# Altium schematic symbol library symbols.SchLib: 23 symbols
Pins are listed as number, name and electrical type; pins without a type are passive.

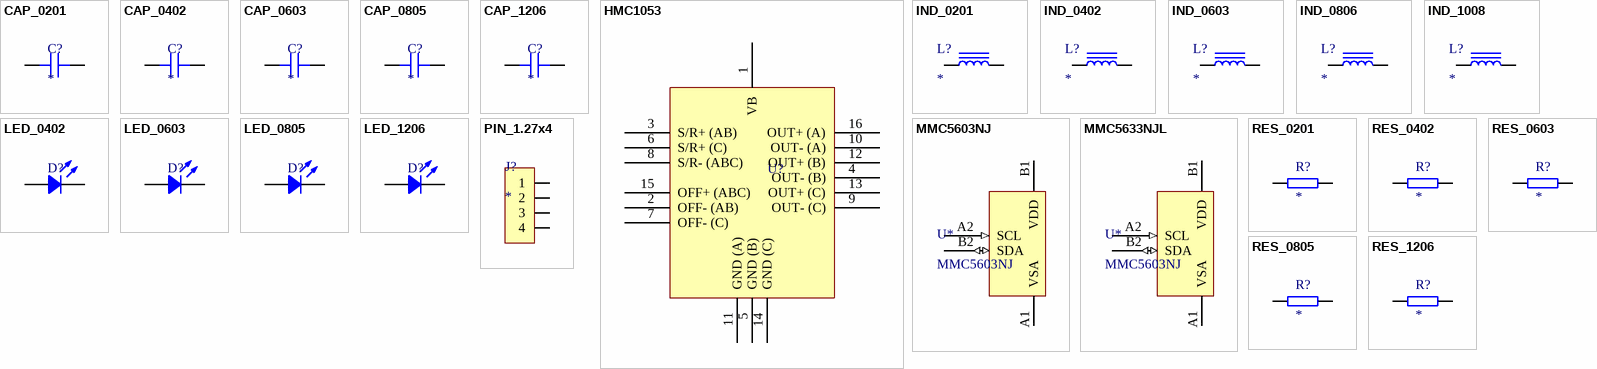
[diagram p0: symbols CAP_0201 to RES_1206]

## CAP_0201
designator C?
Capacitor SMD 0201; Voltage: 50V; Capacitance: *
footprint CAP_0201 (Chip Capacitor, 2-Leads, Body 0.60x0.30mm, IPC Medium Density)
footprint CAP_0201_RF (Chip Capacitor, 2-Leads, Body 0.60x0.30mm, IPC High Density)
pins: 1, 2

## CAP_0402
designator C?
Capacitor SMD 0402; Voltage: 50V; Capacitance: *
footprint CAP_0402 (Chip Capacitor, 2-Leads, Body 1.02x0.51mm, IPC Medium Density)
footprint CAP_0402_RF (Chip Capacitor, 2-Leads, Body 1.02x0.51mm, IPC High Density)
pins: 1, 2

## CAP_0603
designator C?
Capacitor SMD 0603; Voltage: 50V; Capacitance: *
footprint CAP_0603 (Chip Capacitor, 2-Leads, Body 1.60x0.80mm, IPC Medium Density)
footprint CAP_0603_RF (Chip Capacitor, 2-Leads, Body 1.60x0.80mm, IPC High Density)
pins: 1, 2

## CAP_0805
designator C?
Capacitor SMD 0805; Voltage: 50V; Capacitance: *
footprint CAP_0805 (Chip Capacitor, 2-Leads, Body 2.00x1.20mm, IPC Medium Density)
footprint CAP_0805_RF (Chip Capacitor, 2-Leads, Body 2.00x1.20mm, IPC High Density)
pins: 1, 2

## CAP_1206
designator C?
Capacitor SMD 1206; Voltage: 50V; Capacitance: *
footprint CAP_1206 (Chip Capacitor, 2-Leads, Body 3.25x1.60mm, IPC Medium Density)
pins: 1, 2

## HMC1053
designator U?
3-axis magnetoresistive sensor; Manufacturer: Honeywell; Manufacturer Part Number: HMC1053; Operating Supply Voltage: 3V; Output Type: Wheatstone Bridge; Axis: X, Y, Z; Nominal Supply Current: 500mA; Min Supply Voltage: 1.8V; Max Supply Voltage: 20V; Bandwidth: 5MHz; Supplier 1: Newark; RoHS: No; Category: Magnetic Sensors; Case/Package: PLCC; Number of Pins: 16; Min Operating Temperature: -40°C; Max Operating Temperature: 125°C; Package Quantity: 66; Packaging: Tape and Reel; Sensing Method: Magnetoresistive; Length: 7.4mm; Width: 7.4mm; Height: 2.5mm; Radiation Hardening: No; ComponentLink1URL: https://datasheet.ciiva.com/15099/getdatasheetpartid-59250-15099355.pdf?src-supplier=Verical; ComponentLink1Description: https://datasheet.ciiva.com/15099/getdatasheetpartid-59250-15099355.pdf?src-supplier=Verical; ComponentLink2URL: https://datasheet.ciiva.com/2816/hmc-1051-1052-1053-data-sheet-2816521.pdf?src-supplier=Digi-Key; ComponentLink2Description: https://datasheet.ciiva.com/2816/hmc-1051-1052-1053-data-sheet-2816521.pdf?src-supplier=Digi-Key
footprint HMC1053
pins: 1 VB (power), 2 OFF- (AB), 3 S/R+ (AB), 4 OUT- (B), 5 GND (B) (power), 6 S/R+ (C), 7 OFF- (C), 8 S/R- (ABC), 9 OUT- (C), 10 OUT- (A), 11 GND (A) (power), 12 OUT+ (B), 13 OUT+ (C), 14 GND (C) (power), 15 OFF+ (ABC), 16 OUT+ (A)

## IND_0201
designator L?
Inductor SMD 0201; Inductance: *
footprint IND_0201 (Inductor, 2-Leads, Body 0.60x0.30mm, IPC Medium Density)
pins: 1, 2

## IND_0402
designator L?
Inductor SMD 0402; Inductance: *
footprint IND_0402 (Inductor, 2-Leads, Body 1.02x0.51mm, IPC Medium Density)
pins: 1, 2

## IND_0603
designator L?
Inductor SMD 0603; Inductance: *
footprint IND_0603 (Chip Inductor, 2-Leads, Body 1.65x0.99mm, IPC Medium Density)
pins: 1, 2

## IND_0806
designator L?
Inductor SMD 0806; Inductance: *
footprint IND_0806 (Chip Capacitor, 2-Leads, Body 2.00x1.20mm, IPC Medium Density)
pins: 1, 2

## IND_1008
designator L?
Inductor SMD 1008; Inductance: *
footprint IND_1008 (Chip Inductance, 2-leads, Body 2.5x2.1mm, IPC Medium Density)
pins: 1, 2

## LED_0402
designator D?
LED SMD 0402
footprint LED_0402 (Chip Diode, 2-Leads, Body 1.00x0.50mm, IPC Medium Density)
pins: 1, 2

## LED_0603
designator D?
LED SMD 0603
footprint LED_0603 (Chip Diode, 2-Leads, Body 1.60x0.80mm, IPC Medium Density)
pins: 1, 2

## LED_0805
designator D?
LED SMD 0805
footprint LED_0805 (Chip Diode, 2-Leads, Body 2.00x1.25mm, IPC Medium Density)
pins: 1, 2

## LED_1206
designator D?
LED SMD 1206
footprint LED_1206 (Chip Diode, 2-Leads, Body 3.13x1.55mm, IPC Medium Density)
pins: 1, 2

## MMC5603NJ
designator U*
3-axis AMR Magnetic Sensor; Manufacturer: Memsic; Manufacturer Part Number: MMC5603NJ; RoHS: Yes
footprint MMC5603NJ
pins: A1 VSA (power), A2 SCL (in), B1 VDD (power), B2 SDA (io)

## MMC5633NJL
designator U*, comment MMC5603NJ
3-axis AMR Magnetic Sensor; Manufacturer: Memsic; Manufacturer Part Number: MMC5633NJL; RoHS: Yes
footprint MMC5633NJL
pins: A1 VSA (power), A2 SCL (in), B1 VDD (power), B2 SDA (io)

## PIN_1.27x4
designator J?
footprint PIN_1.27x4 (Pin Header, pitch 1.27 mm, THT)
pins: 1, 2, 3, 4

## RES_0201
designator R?
Resistor SMD 0201; Resistance: *
footprint RES_0201 (Chip Resistor, 2-Leads, Body 0.60x0.30mm, IPC Medium Density)
pins: 1, 2

## RES_0402
designator R?
Resistor SMD 0402; Resistance: *
footprint RES_0402 (Chip Resistor, 2-Leads, Body 1.0x0.5mm, IPC Medium Density)
footprint RES_0402_RF (Chip Resistor, 2-Leads, Body 1.0x0.5mm, IPC High Density)
pins: 1, 2

## RES_0603
designator R?
Resistor SMD 0603; Resistance: *
footprint RES_0603 (Chip Resistor, 2-Leads, Body 1.60x0.80mm, IPC Medium Density)
footprint RES_0603_RF (Chip Resistor, 2-Leads, Body 1.60x0.80mm, IPC High Density)
pins: 1, 2

## RES_0805
designator R?
Resistor SMD 0805; Resistance: *
footprint RES_0805 (Chip Resistor, 2-Leads, Body 2.00x1.25mm, IPC Medium Density)
footprint RES_0805_RF (Chip Resistor, 2-Leads, Body 2.00x1.25mm, IPC High Density)
pins: 1, 2

## RES_1206
designator R?
Resistor SMD 1206; Resistance: *
footprint RES_1206 (Chip Resistor, 2-Leads, Body 3.13x1.55mm, IPC Medium Density)
footprint RES_1206_RF (Chip Resistor, 2-Leads, Body 3.13x1.55mm, IPC High Density)
pins: 1, 2